# Altium schematic symbol library Diode-Zener-Rectifier Bridge.SchLib: 28 symbols
Pins are listed as number, name and electrical type; pins without a type are passive.

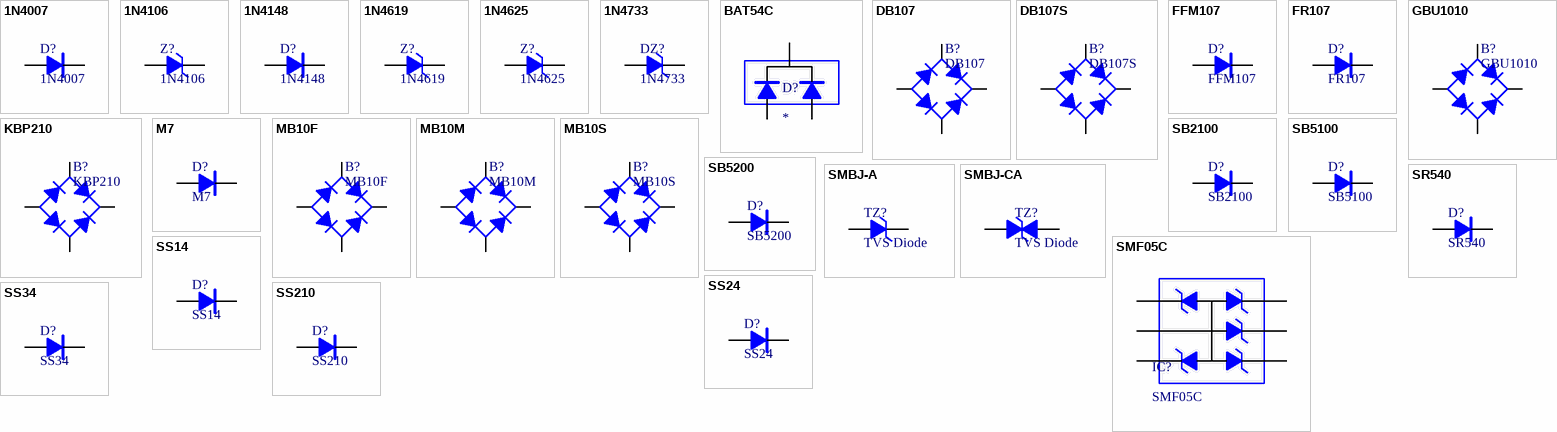
[diagram p0: symbols 1N4007 to SS210]

## 1N4007
designator D?
Rectifier diode; BOM名称: 整流二极管; 版权归属: 源创客; 学习资源: www.ooocke.com
footprint DO-41 (2.6*9.1mm(直径，脚距）)
footprint SOD-123 (2.7x1.6X1.1mm（长宽高，不包括引脚）)
footprint SMA (4.5x2.6*2.2mm（长宽高，不包括引脚）)
footprint DO-41V (2.6*3.5mm(直径，脚距）)
pins: 1 A, 2 K

## 1N4106
designator Z?
12V/0.5W voltage regulator; BOM名称: 12V/0.5W稳压管; 版权归属: 源创客; 学习资源: www.ooocke.com
footprint DO-35 (1.8*6.8mm(直径，脚距）)
footprint DO-213AA (1.5*3.5mm(直径，脚距）)
footprint DO-35V (1.8*2.5mm(直径，脚距）)
pins: 1 A, 2 K

## 1N4148
designator D?
High speed switching diode; BOM名称: 高速开关二极管; 版权归属: 源创客; 学习资源: www.ooocke.com
footprint DO-35 (1.8*6.8mm(直径，脚距）)
footprint MINI_MELF (LL34) (1.5*3.4mm(直径，脚距）)
footprint SOD-323 (1.8x1.3X0.9mm（长宽高，不包括引脚）)
footprint DO-35V (1.8*2.5mm(直径，脚距）)
pins: 1 A, 2 K

## 1N4619
designator Z?
3V/0.5W voltage regulator; BOM名称: 3V/0.5W稳压管; 版权归属: 源创客; 学习资源: www.ooocke.com
footprint DO-35 (1.8*6.8mm(直径，脚距）)
footprint MINI_MELF (LL34) (1.5*3.4mm(直径，脚距）)
footprint DO-35V (1.8*2.5mm(直径，脚距）)
pins: 1 A, 2 K

## 1N4625
designator Z?
5.1V/0.5W voltage regulator; BOM名称: 5.1V/0.5W稳压管; 版权归属: 源创客; 学习资源: www.ooocke.com
footprint DO-35 (1.8*6.8mm(直径，脚距）)
footprint MINI_MELF (LL34) (1.5*3.4mm(直径，脚距）)
footprint DO-35V (1.8*2.5mm(直径，脚距）)
pins: 1 A, 2 K

## 1N4733
designator DZ?
5.1V/1W regulator tube; BOM名称: 5.1V/1W稳压管; 版权归属: 源创客; 学习资源: www.ooocke.com
footprint DO-41 (2.6*9.1mm(直径，脚距）)
footprint MELF (LL41) (2.4*5.3mm(直径，脚距）)
footprint DO-41V (2.6*3.5mm(直径，脚距）)
footprint SMA (4.5x2.6*2.2mm（长宽高，不包括引脚）)
pins: 1 A, 2 K

## BAT54C
designator D?
SURFACE MOUNT SCHOTTKY BARRIER DIODE
footprint SOT23-3L (3x1.3x1mm(³¤¿í¸ß))
footprint SOT23-3M (3x1.3x1mm(³¤¿í¸ß))
footprint SOT23-3N (3x1.3x1mm(³¤¿í¸ß))
pins: 1, 2, 3

## DB107
designator B?
700V/1A rectifier bridge; BOM名称: 700V/1A整流桥; 版权归属: 源创客; 学习资源: www.ooocke.com
footprint DB (8.5*7.6*3mm(长宽高))
pins: AC1, AC2, DC+, DC-

## DB107S
designator B?
700V/1A rectifier bridge; BOM名称: 700V/1A整流桥; 版权归属: 源创客; 学习资源: www.ooocke.com
footprint DBS (8.5*10.1*3mm(长宽高))
pins: AC1, AC2, DC+, DC-

## FFM107
designator D?
Fast recovery rectifier diode; BOM名称: 快恢复二极管; 版权归属: 源创客; 学习资源: www.ooocke.com
footprint SOD-123F
pins: 1 A, 2 K

## FR107
designator D?
Fast recovery rectifier diode; BOM名称: 快恢复二极管; 版权归属: 源创客; 属性: 700V/1A; 学习资源: www.ooocke.com
footprint DO-41 (2.6*9.1mm(直径，脚距）)
footprint DO-41V (2.6*3.5mm(直径，脚距）)
pins: 1 A, 2 K

## GBU1010
designator B?
1KV/10A rectifier bridge; BOM名称: 1KV/10A整流桥; 版权归属: 源创客; 学习资源: www.ooocke.com
footprint GBU (整流桥，脚距：5mm/200mil)
pins: AC1, AC2, DC+, DC-

## KBP210
designator B?
1KV/2A rectifier bridge; BOM名称: 1KV/2A整流桥; 版权归属: 源创客; 学习资源: www.ooocke.com
footprint KBP (14.7*4.8*12.2mm(长宽高))
pins: AC1, AC2, DC+, DC-

## M7
designator D?
Rectifier diode; BOM名称: 整流二极管; 版权归属: 源创客; 学习资源: www.ooocke.com
footprint SMA (4.5x2.6*2.2mm（长宽高，不包括引脚）)
pins: 1 A, 2 K

## MB10F
designator B?
1KV/0.8A rectifier bridge; BOM名称: 1KV/0.8A整流桥; 版权归属: 源创客; 学习资源: www.ooocke.com
footprint MBF (4.7*7*1.5mm(长宽高))
pins: AC1, AC2, DC+, DC-

## MB10M
designator B?
1KV/0.8A rectifier bridge; BOM名称: 1KV/0.8A整流桥; 版权归属: 源创客; 学习资源: www.ooocke.com
footprint MBM (4.8*5.2*2.5mm(长宽高))
pins: AC1, AC2, DC+, DC-

## MB10S
designator B?
1KV/0.8A rectifier bridge; BOM名称: 1KV/0.8A整流桥; 版权归属: 源创客; 学习资源: www.ooocke.com
footprint MBS (4.1*6.8*2.5mm(长宽高))
pins: AC1, AC2, DC+, DC-

## SB2100
designator D?
Schottky diodes; BOM名称: 整流二极管; 版权归属: 源创客; 属性: 100V  2A; 学习资源: www.ooocke.com
footprint DO-15 (3.3*10.3mm(直径，脚距）)
footprint DO-15V (3.3*4mm(直径，脚距）)
pins: 1 A, 2 K

## SB5100
designator D?
Schottky diodes; BOM名称: 整流二极管; 版权归属: 源创客; 属性: 100V  5A; 学习资源: www.ooocke.com
footprint DO-201AD (5.2*15.2mm(直径，脚距）)
footprint DO-201ADV (5.2*5.5mm(直径，脚距）)
pins: 1 A, 2 K

## SB5200
designator D?
Schottky diodes; BOM名称: 整流二极管; 版权归属: 源创客; 属性: 200V  5A; 学习资源: www.ooocke.com
footprint DO-201AD (5.2*15.2mm(直径，脚距）)
footprint DO-201ADV (5.2*5.5mm(直径，脚距）)
pins: 1 A, 2 K

## SMBJ-A
designator TZ?, comment TVS Diode
Surface Mount TRANSZORB® Transient Voltage Suppressors
footprint SMB (4.7*3.9*2.2mm(����ߣ����������ţ�)
pins: 1 A, 2 K

## SMBJ-CA
designator TZ?, comment TVS Diode
Surface Mount TRANSZORB® Transient Voltage Suppressors /
footprint SMB (4.7*3.9*2.2mm(����ߣ����������ţ�)
pins: 1 A, 2 K

## SMF05C
designator IC?
ESD Protection Diode Array, 5-Line
footprint SOT23-6L (3x1.6x1.1mm(�����))
footprint SOT23-6M (3x1.6x1.1mm(�����))
footprint SOT23-6N (3x1.6x1.1mm(�����))
pins: 1 K, 2 A, 3 K, 4 K, 5 K, 6 K

## SR540
designator D?
Schottky diodes; BOM名称: 整流二极管; 版权归属: 源创客; 属性: 40V  5A; 学习资源: www.ooocke.com
footprint DO-27 (5.2*14.9mm(直径，脚距）)
footprint DO-27V (5.2*5.5mm(直径，脚距）)
pins: 1 A, 2 K

## SS14
designator D?
Schottky diodes; BOM名称: 肖特基二极管; 版权归属: 源创客; 属性: 40V/1A; 学习资源: www.ooocke.com
footprint SMA (4.5x2.6*2.2mm（长宽高，不包括引脚）)
footprint SMB (4.7*3.9*2.2mm(³¤¿í¸ß£¬²»°üÀ¨Òý½Å£©)
footprint SMC (7.1x5.9*2.3mm£¨³¤¿í¸ß£¬²»°üÀ¨Òý½Å£©)
pins: 1 A, 2 K

## SS24
designator D?
Schottky diodes; BOM名称: 肖特基二极管; 版权归属: 源创客; 属性: 40V/2A; 学习资源: www.ooocke.com
footprint SMB (4.7*3.9*2.2mm(长宽高，不包括引脚）)
footprint SMA (4.5x2.6*2.2mm£¨³¤¿í¸ß£¬²»°üÀ¨Òý½Å£©)
footprint SMC (7.1x5.9*2.3mm£¨³¤¿í¸ß£¬²»°üÀ¨Òý½Å£©)
pins: 1 A, 2 K

## SS34
designator D?
Schottky diodes; BOM名称: 肖特基二极管; 版权归属: 源创客; 属性: 40V/3A; 学习资源: www.ooocke.com
footprint SMC (7.1x5.9*2.3mm（长宽高，不包括引脚）)
footprint SMA (4.5x2.6*2.2mm£¨³¤¿í¸ß£¬²»°üÀ¨Òý½Å£©)
footprint SMB (4.7*3.9*2.2mm(³¤¿í¸ß£¬²»°üÀ¨Òý½Å£©)
pins: 1 A, 2 K

## SS210
designator D?
Schottky diodes; BOM名称: 肖特基二极管; 版权归属: 源创客; 学习资源: www.ooocke.com
footprint SMA (4.5x2.6*2.2mm（长宽高，不包括引脚）)
pins: 1 A, 2 K